# Altium schematic symbol library Schlib1.SchLib: 3 symbols
Pins are listed as number, name and electrical type; pins without a type are passive.

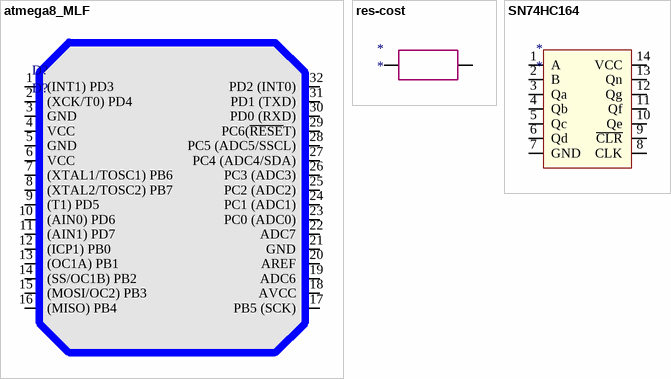
[diagram p0: symbols atmega8_MLF to SN74HC164]

## atmega8_MLF
designator D?, comment D?
footprint TQFP80P900X900X120-32N (TQFP, 32-Leads, Body 7,00x7,00mm, Pitch 0,80mm, IPC Medium Density)
pins: 1 (INT1) PD3, 2 (XCK/T0) PD4, 3 GND, 4 VCC, 5 GND, 6 VCC, 7 (XTAL1/TOSC1) PB6, 8 (XTAL2/TOSC2) PB7, 9 (T1) PD5, 10 (AIN0) PD6, 11 (AIN1) PD7, 12 (ICP1) PB0, 13 (OC1A) PB1, 14 (SS/OC1B) PB2, 15 (MOSI/OC2) PB3, 16 (MISO) PB4, 17 PB5 (SCK), 18 AVCC, 19 ADC6, 20 AREF, 21 GND, 22 ADC7, 23 PC0 (ADC0), 24 PC1 (ADC1), 25 PC2 (ADC2), 26 PC3 (ADC3), 27 PC4 (ADC4/SDA), 28 PC5 (ADC5/SSCL), 29 PC6(~{RESE}T), 30 PD0 (RXD), 31 PD1 (TXD), 32 PD2 (INT0)

## res-cost
designator *
footprint res_0805
pins: 1, 2

## SN74HC164
designator *
footprint SN74HC164 - duplicate
pins: 1 A, 2 B, 3 Qa, 4 Qb, 5 Qc, 6 Qd, 7 GND, 8 CLK, 9 ~{CLR}, 10 Qe, 11 Qf, 12 Qg, 13 Qn, 14 VCC